# EAGLE library part RJ45_2SH (library TL-WR703N)
RJ45 Socket with 2 Shield Pins Copyright © 2012, Michel Stempin, All rights reserved Licenced under Creative Commons CC BY-SA 3.0 <http://creativecommons.org/licenses/by-sa/3.0/deed.en> license.
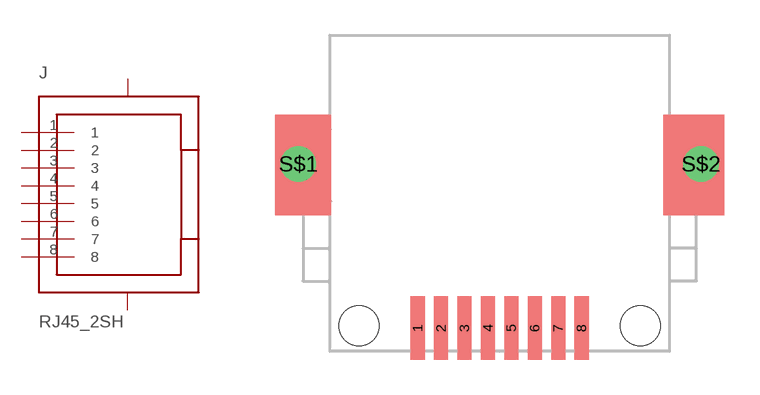
[diagram p5: symbol with the pads of RJ45_LP_RA_SMT; footprint RJ45_LP_RA_SMT]

Designator prefix J

## RJ45_2SH  [RJ45_LP_RA_SMT]
1  1  pas
2  2  pas
3  3  pas
4  4  pas
5  5  pas
6  6  pas
7  7  pas
8  8  pas
S$1  SHIELD  pas
S$2  SHIELD  pas

## Footprint RJ45_LP_RA_SMT (pad centres in mm)
RJ45 Low-Profile SMT R/A Socket Copyright © 2012, Michel Stempin, All rights reserved Licenced under Creative Commons CC BY-SA 3.0 <http://creativecommons.org/licenses/by-sa/3.0/deed.en> license.
smd 0.6 x 2.7: 1 -3.5,0; 2 -2.5,0; 3 -1.5,0; 4 -0.5,0; 5 0.5,0; 6 1.5,0; 7 2.5,0; 8 3.5,0
drill 1: S$1 -8.6,7; S$2 8.6,7
hole 1.7 at -6,0.1
hole 1.7 at 6,0.1